# Altium schematic symbol library 35362-0450.SchLib: 1 symbol
Pins are listed as number, name and electrical type; pins without a type are passive.

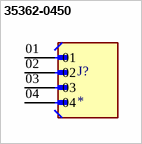
[diagram p0: symbol 35362-0450]

## 35362-0450
designator J?
Connector Header Through Hole 4 position 0.079 (2.00mm); MP: 35362-0450; MF: Molex; SnapEDA_Link: https://www.snapeda.com/parts/35362-0450/Molex/view-part/?ref=snap; Availability: In Stock; Price: None; Value: *; Check_prices: https://www.snapeda.com/parts/35362-0450/Molex/view-part/?ref=eda; Package: None
footprint MOLEX_35362-0450
pins: 01, 02, 03, 04